# EAGLE library part TPS2115APWR (library tps2115apwr)
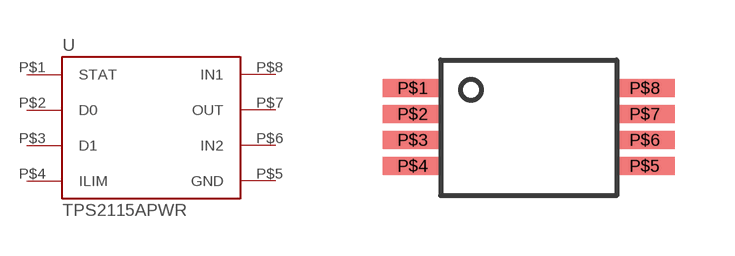
[diagram p0: symbol with the pads of TSSOP-8; footprint TSSOP-8]

Designator prefix -

## TPS2115APWR  [TSSOP-8]
P$1  STAT
P$2  D0
P$3  D1
P$4  ILIM
P$5  GND
P$6  IN2
P$7  OUT
P$8  IN1

## Footprint TSSOP-8 (pad centres in mm)
smd 1.5 x 0.45: P$1 -2.9,1; P$2 -2.9,0.35; P$3 -2.9,-0.3; P$4 -2.9,-0.95; P$5 2.9,-0.95; P$6 2.9,-0.3; P$7 2.9,0.35; P$8 2.9,1